# Altium footprint library SAMTEC-SFM-115-02-X-D-A.PcbLib: 1 footprints
Each footprint in its own frame and in the unit in brackets; x right, y up, seen from the top. Pads: shape width x height; smd on the part's side, far side on the other; paste and mask are expansions set on the pad; w line width, h text height; cw(c..) or ccw(c..) is an arc to the next point about the centre after c.
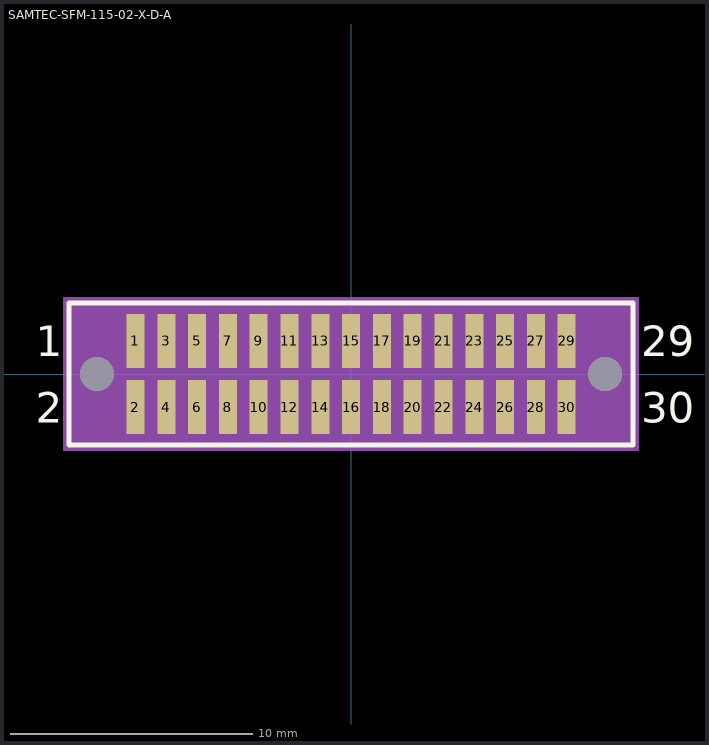
[diagram p0: the footprint, top view; thin cyan lines are the x and y axes]

## SAMTEC-SFM-115-02-X-D-A [mm]
pads (32):
  rect 0.74x2.22 smd mask+0: 1(-8.89,1.365) 2(-8.89,-1.365) 3(-7.62,1.365) 4(-7.62,-1.365) 5(-6.35,1.365) 6(-6.35,-1.365) 7(-5.08,1.365) 8(-5.08,-1.365) 9(-3.81,1.365) 10(-3.81,-1.365) 11(-2.54,1.365) 12(-2.54,-1.365) 13(-1.27,1.365) 14(-1.27,-1.365) 15(0,1.365) 16(0,-1.365) 17(1.27,1.365) 18(1.27,-1.365) 19(2.54,1.365) 20(2.54,-1.365) 21(3.81,1.365) 22(3.81,-1.365) 23(5.08,1.365) 24(5.08,-1.365) 25(6.35,1.365) 26(6.35,-1.365) 27(7.62,1.365) 28(7.62,-1.365) 29(8.89,1.365) 30(8.89,-1.365)
  round 1.4 hole 1.4 unplated: ""(-10.478,0) ""(10.478,0)
Top Overlay:
  lines w0.2: -11.629,-2.926 -11.629,2.926 11.629,2.926 11.629,-2.926 -11.629,-2.926
  text "2" at -12.999,-2 h1.27
  text "1" at -12.999,0.73 h1.27
  text "30" at 11.969,-2 h1.27
  text "29" at 11.969,0.73 h1.27
Top Paste:
  region: -8.52,0.255 -9.26,0.255 -9.26,2.475 -8.52,2.475
  region: -8.52,-2.475 -9.26,-2.475 -9.26,-0.255 -8.52,-0.255
  region: -7.25,0.255 -7.99,0.255 -7.99,2.475 -7.25,2.475
  region: -7.25,-2.475 -7.99,-2.475 -7.99,-0.255 -7.25,-0.255
  region: -5.98,0.255 -6.72,0.255 -6.72,2.475 -5.98,2.475
  region: -5.98,-2.475 -6.72,-2.475 -6.72,-0.255 -5.98,-0.255
  region: -4.71,0.255 -5.45,0.255 -5.45,2.475 -4.71,2.475
  region: -4.71,-2.475 -5.45,-2.475 -5.45,-0.255 -4.71,-0.255
  region: -3.44,0.255 -4.18,0.255 -4.18,2.475 -3.44,2.475
  region: -3.44,-2.475 -4.18,-2.475 -4.18,-0.255 -3.44,-0.255
  region: -2.17,0.255 -2.91,0.255 -2.91,2.475 -2.17,2.475
  region: -2.17,-2.475 -2.91,-2.475 -2.91,-0.255 -2.17,-0.255
  region: -0.9,0.255 -1.64,0.255 -1.64,2.475 -0.9,2.475
  region: -0.9,-2.475 -1.64,-2.475 -1.64,-0.255 -0.9,-0.255
  region: 0.37,0.255 -0.37,0.255 -0.37,2.475 0.37,2.475
  region: 0.37,-2.475 -0.37,-2.475 -0.37,-0.255 0.37,-0.255
  region: 1.64,0.255 0.9,0.255 0.9,2.475 1.64,2.475
  region: 1.64,-2.475 0.9,-2.475 0.9,-0.255 1.64,-0.255
  region: 2.91,0.255 2.17,0.255 2.17,2.475 2.91,2.475
  region: 2.91,-2.475 2.17,-2.475 2.17,-0.255 2.91,-0.255
  region: 4.18,0.255 3.44,0.255 3.44,2.475 4.18,2.475
  region: 4.18,-2.475 3.44,-2.475 3.44,-0.255 4.18,-0.255
  region: 5.45,0.255 4.71,0.255 4.71,2.475 5.45,2.475
  region: 5.45,-2.475 4.71,-2.475 4.71,-0.255 5.45,-0.255
  region: 6.72,0.255 5.98,0.255 5.98,2.475 6.72,2.475
  region: 6.72,-2.475 5.98,-2.475 5.98,-0.255 6.72,-0.255
  region: 7.99,0.255 7.25,0.255 7.25,2.475 7.99,2.475
  region: 7.99,-2.475 7.25,-2.475 7.25,-0.255 7.99,-0.255
  region: 9.26,0.255 8.52,0.255 8.52,2.475 9.26,2.475
  region: 9.26,-2.475 8.52,-2.475 8.52,-0.255 9.26,-0.255
Top Solder:
  circle w0: c10.478,0 r0.751
  circle w0: c-10.478,0 r0.751
  region: -8.469,0.204 -9.311,0.204 -9.311,2.526 -8.469,2.526
  region: -8.469,-2.526 -9.311,-2.526 -9.311,-0.204 -8.469,-0.204
  region: -7.199,0.204 -8.041,0.204 -8.041,2.526 -7.199,2.526
  region: -7.199,-2.526 -8.041,-2.526 -8.041,-0.204 -7.199,-0.204
  region: -5.929,0.204 -6.771,0.204 -6.771,2.526 -5.929,2.526
  region: -5.929,-2.526 -6.771,-2.526 -6.771,-0.204 -5.929,-0.204
  region: -4.659,0.204 -5.501,0.204 -5.501,2.526 -4.659,2.526
  region: -4.659,-2.526 -5.501,-2.526 -5.501,-0.204 -4.659,-0.204
  region: -3.389,0.204 -4.231,0.204 -4.231,2.526 -3.389,2.526
  region: -3.389,-2.526 -4.231,-2.526 -4.231,-0.204 -3.389,-0.204
  region: -2.119,0.204 -2.961,0.204 -2.961,2.526 -2.119,2.526
  region: -2.119,-2.526 -2.961,-2.526 -2.961,-0.204 -2.119,-0.204
  region: -0.849,0.204 -1.691,0.204 -1.691,2.526 -0.849,2.526
  region: -0.849,-2.526 -1.691,-2.526 -1.691,-0.204 -0.849,-0.204
  region: 0.421,0.204 -0.421,0.204 -0.421,2.526 0.421,2.526
  region: 0.421,-2.526 -0.421,-2.526 -0.421,-0.204 0.421,-0.204
  region: 1.691,0.204 0.849,0.204 0.849,2.526 1.691,2.526
  region: 1.691,-2.526 0.849,-2.526 0.849,-0.204 1.691,-0.204
  region: 2.961,0.204 2.119,0.204 2.119,2.526 2.961,2.526
  region: 2.961,-2.526 2.119,-2.526 2.119,-0.204 2.961,-0.204
  region: 4.231,0.204 3.389,0.204 3.389,2.526 4.231,2.526
  region: 4.231,-2.526 3.389,-2.526 3.389,-0.204 4.231,-0.204
  region: 5.501,0.204 4.659,0.204 4.659,2.526 5.501,2.526
  region: 5.501,-2.526 4.659,-2.526 4.659,-0.204 5.501,-0.204
  region: 6.771,0.204 5.929,0.204 5.929,2.526 6.771,2.526
  region: 6.771,-2.526 5.929,-2.526 5.929,-0.204 6.771,-0.204
  region: 8.041,0.204 7.199,0.204 7.199,2.526 8.041,2.526
  region: 8.041,-2.526 7.199,-2.526 7.199,-0.204 8.041,-0.204
  region: 9.311,0.204 8.469,0.204 8.469,2.526 9.311,2.526
  region: 9.311,-2.526 8.469,-2.526 8.469,-0.204 9.311,-0.204
Bottom Solder:
  circle w0: c10.478,0 r0.751
  circle w0: c-10.478,0 r0.751
Mechanical 15:
  region: 11.864,-3.161 -11.864,-3.161 -11.864,3.161 11.864,3.161
3D body "SFM-115-02-L-D-A.stp": height 4.7, standoff -1.14, extent -11.112,-2.159 11.112,2.045